# Altium schematic symbol library XT60PW.SchLib: 2 symbols
Pins are listed as number, name and electrical type; pins without a type are passive.

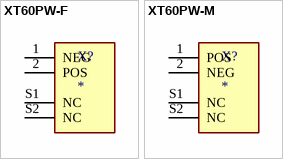
[diagram p0: symbols XT60PW-F to XT60PW-M]

## XT60PW-F
designator X?
Socket DC Supply Connector Female; Part Number: XT60PW-F; Manufacturer: AMASS; Availability: Unavailable; SnapEDA_Link: https://www.snapeda.com/parts/XT60PW-F/AMASS/view-part/2890674/?ref=snap; Value: *; Price: None; Package: Package
footprint XT60PW-F
pins: 1 NEG, 2 POS, S1 NC, S2 NC

## XT60PW-M
designator X?
Socket, DC supply, male, PIN: 2; Part Number: XT60PW-M; Manufacturer: AMASS; Package: Package; SnapEDA_Link: https://www.snapeda.com/parts/XT60PW-M/AMASS/view-part/?ref=snap; Value: *; Availability: Not in stock; Price: None; Check_prices: https://www.snapeda.com/parts/XT60PW-M/AMASS/view-part/?ref=eda; LCSC Part Number: C98732
footprint XT60PW-M
pins: 1 POS, 2 NEG, S1 NC, S2 NC